# Altium footprint library Connectors.PcbLib: 67 footprints (part 2 of 5)
Each footprint in its own frame and in the unit in brackets; x right, y up, seen from the top. Pads: shape width x height; smd on the part's side, far side on the other; paste and mask are expansions set on the pad; w line width, h text height; cw(c..) or ccw(c..) is an arc to the next point about the centre after c.
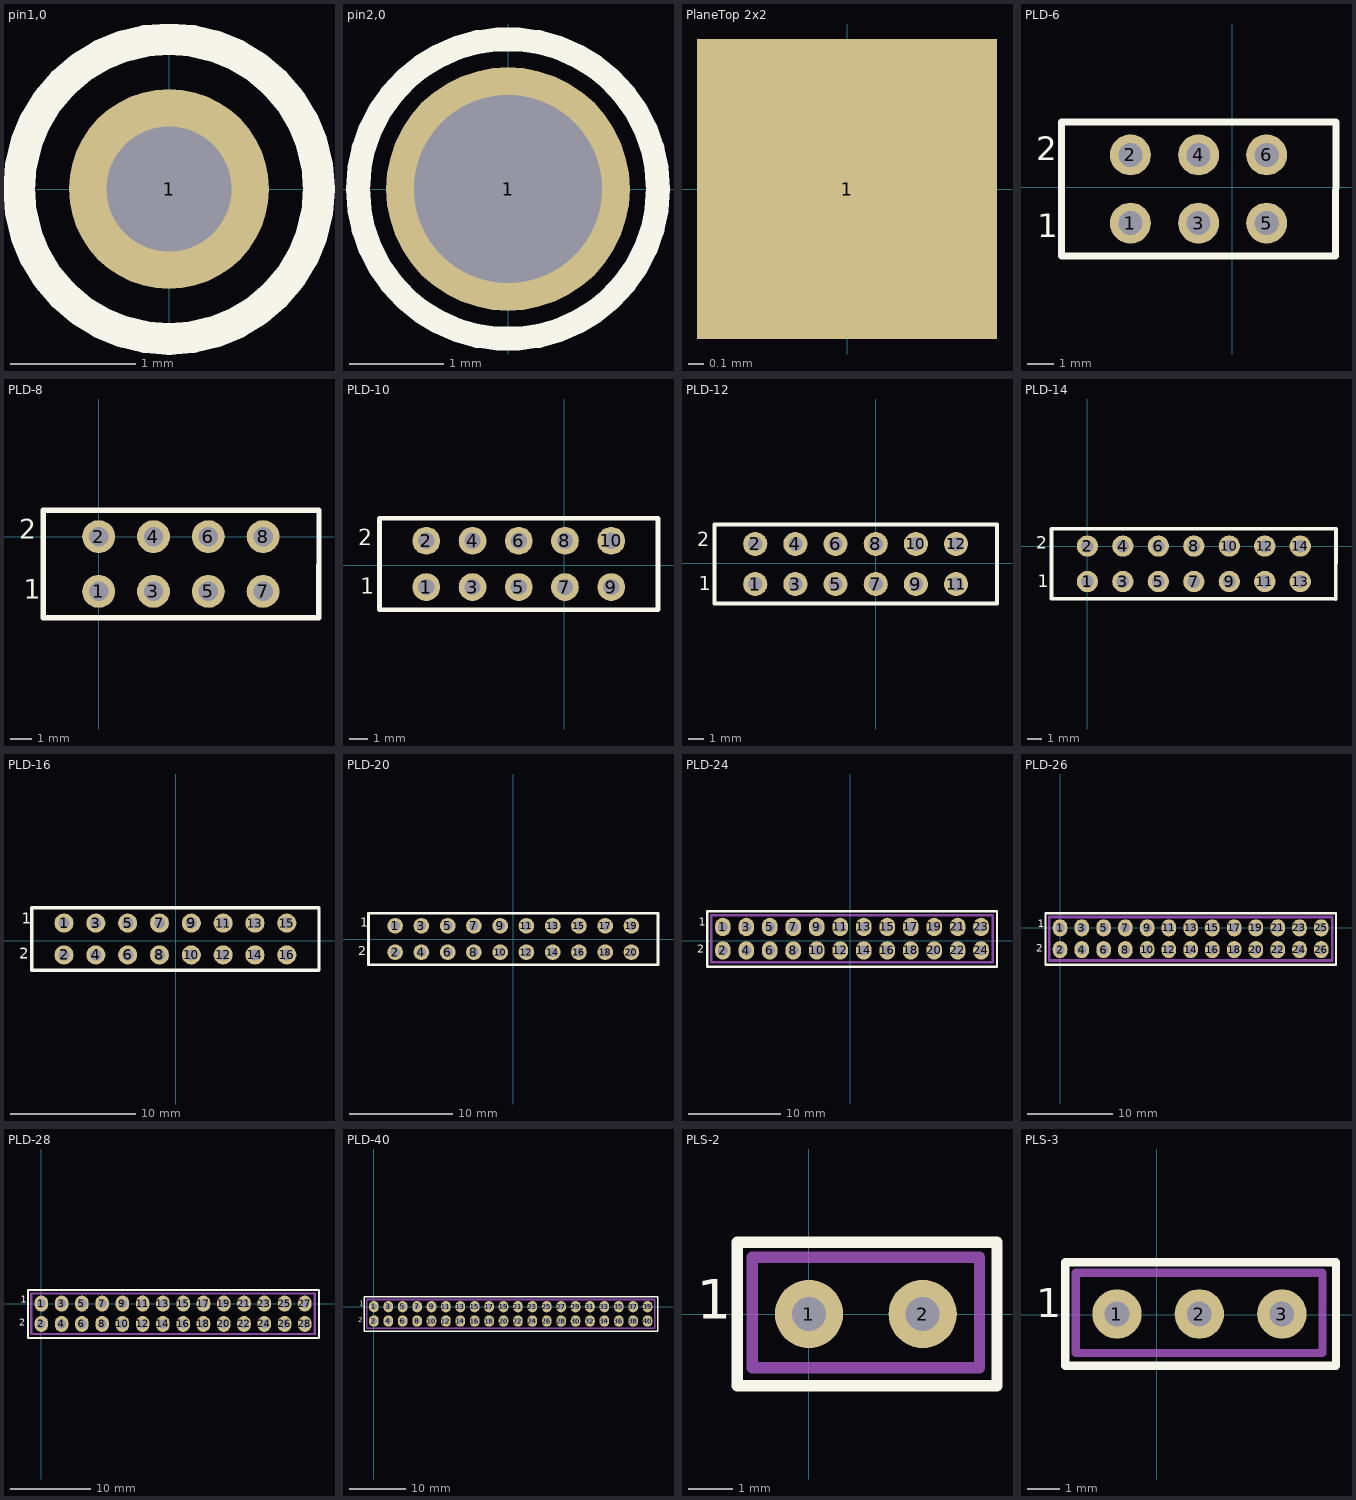
[diagram p1: the footprints below, top view; thin cyan lines are the x and y axes]

## pin1,0 [mm]
pads (1):
  round 1.6 hole 1: 1(0,0)
Top Overlay:
  circle w0.254: c0,0 r1.2

## pin2,0 [mm]
pads (1):
  round 2.6 hole 2: 1(0,0)
Top Overlay:
  circle w0.254: c0,0 r1.6

## PlaneTop 2x2 [mm]
pads (1):
  rect 2x2 smd: 1(0,0)

## PLD-6 [mm]
pads (6):
  round 1.524 hole 0.9: 1(-3.8,-1.34) 2(-3.8,1.2) 3(-1.26,-1.34) 4(-1.26,1.2) 5(1.28,-1.34) 6(1.28,1.2)
Top Overlay:
  lines w0.254: -6.37,-2.57 -6.37,2.43 3.865,2.43 3.85,-2.57 -6.37,-2.57
  text "2" at -7.321,0.7 h1.52
  text "1" at -7.27,-2.16 h1.52
3D body: height 10.5, standoff 0, extent -6.37,-2.57 3.74,2.43

## PLD-8 [mil]
pads (8):
  round 60 hole 35.43: 1(0,-100) 2(0,0) 3(100,-100) 4(100,0) 5(200,-100) 6(200,0) 7(300,-100) 8(300,0)
Top Overlay:
  lines w10: -101.18,-148.43 -101.18,48.43 401.9,48.43 401.31,-148.43 -101.18,-148.43
  text "2" at -145.33,-15.35 h60
  text "1" at -136.61,-125.2 h60
3D body: height 413.39, standoff 0, extent -101.18,-148.43 401.57,48.43

## PLD-10 [mm]
pads (10):
  round 1.524 hole 0.9: 1(-7.58,-1.21) 2(-7.58,1.33) 3(-5.04,-1.21) 4(-5.04,1.33) 5(-2.5,-1.21) 6(-2.5,1.33) 7(0.04,-1.21) 8(0.04,1.33) 9(2.58,-1.21) 10(2.58,1.33)
Top Overlay:
  lines w0.254: -10.15,-2.45 5.15,-2.45 5.15,2.56 -10.15,2.56 -10.15,-2.45
  text "1" at -11.22,-1.88 h1.5
  text "2" at -11.331,0.79 h1.5
3D body: height 10.5, standoff 0, extent -10.15,-2.44 5.15,2.56

## PLD-12 [mm]
pads (12):
  round 1.524 hole 0.9: 1(-7.62,-1.33) 2(-7.62,1.21) 3(-5.08,-1.33) 4(-5.08,1.21) 5(-2.54,-1.33) 6(-2.54,1.21) 7(0,-1.33) 8(0,1.21) 9(2.54,-1.33) 10(2.54,1.21) 11(5.08,-1.33) 12(5.08,1.21)
Top Overlay:
  lines w0.254: -10.19,-2.56 7.655,-2.56 7.671,2.44 -10.19,2.44 -10.19,-2.56
  text "1" at -11.19,-2.04 h1.5
  text "2" at -11.301,0.74 h1.5
3D body: height 10.5, standoff 0, extent -10.19,-2.56 7.66,2.44

## PLD-14 [mil]
pads (14):
  round 60 hole 35.43: 1(0,-100) 2(0,0) 3(100,-100) 4(100,0) 5(200,-100) 6(200,0) 7(300,-100) 8(300,0) 9(400,-100) 10(400,0) 11(500,-100) 12(500,0) 13(600,-100) 14(600,0)
Top Overlay:
  lines w10: 700.19,-149.61 700.79,47.24 ; 700.19,-148.43 -101.18,-148.43 -101.18,48.43 700.79,48.43
  text "2" at -144.94,-18.5 h59.06
  text "1" at -140.55,-127.95 h59.06
3D body: height 413.39, standoff 0, extent -101.18,-148.43 700,48.43

## PLD-16 [mm]
pads (16):
  round 1.524 hole 0.9: 1(-8.9,1.39) 2(-8.9,-1.15) 3(-6.36,1.39) 4(-6.36,-1.15) 5(-3.82,1.39) 6(-3.82,-1.15) 7(-1.28,1.39) 8(-1.28,-1.15) 9(1.26,1.39) 10(1.26,-1.15) 11(3.8,1.39) 12(3.8,-1.15) 13(6.34,1.39) 14(6.34,-1.15) 15(8.88,1.39) 16(8.88,-1.15)
Top Overlay:
  lines w0.254: -11.47,-2.38 -11.47,2.62 11.45,2.62 11.45,-2.38 -11.47,-2.38
  text "2" at -12.491,-1.76 h1.5
  text "1" at -12.28,1 h1.5
3D body: height 10.5, standoff 0, extent -11.47,-2.38 11.46,2.62

## PLD-20 [mil]
pads (20):
  round 60 hole 35.43: 1(-450,50) 2(-450,-50) 3(-350,50) 4(-350,-50) 5(-250,50) 6(-250,-50) 7(-150,50) 8(-150,-50) 9(-50,50) 10(-50,-50) 11(50,50) 12(50,-50) 13(150,50) 14(150,-50) 15(250,50) 16(250,-50) 17(350,50) 18(350,-50) 19(450,50) 20(450,-50)
Top Overlay:
  lines w10: -551.18,-98.43 -551.18,98.43 551.18,98.43 551.18,-98.43 -551.18,-98.43
  text "2" at -591.39,-74.02 h59.06
  text "1" at -583.07,34.65 h59.06
3D body: height 413.39, standoff 0, extent -551.18,-98.43 551.18,98.43

## PLD-24 [mm]
pads (24):
  oval 1.7x2 hole 1.1: 1(-13.8,1.47) 2(-13.8,-1.07) 3(-11.26,1.47) 4(-11.26,-1.07) 5(-8.72,1.47) 6(-8.72,-1.07) 7(-6.18,1.47) 8(-6.18,-1.07) 9(-3.64,1.47) 10(-3.64,-1.07) 11(-1.1,1.47) 12(-1.1,-1.07) 13(1.44,1.47) 14(1.44,-1.07) 15(3.98,1.47) 16(3.98,-1.07) 17(6.52,1.47) 18(6.52,-1.07) 19(9.06,1.47) 20(9.06,-1.07) 21(11.6,1.47) 22(11.6,-1.07) 23(14.14,1.47) 24(14.14,-1.07)
Top Overlay:
  lines w0.254: -15.5,-2.83 15.86,-2.83 15.86,3.17 -15.5,3.17 -15.5,-2.83
  text "1" at -16.4,1.27 h1.5
  text "2" at -16.601,-1.63 h1.5
Mechanical 15:
  lines w0.3: -15.07,-2.34 15.41,-2.34 15.41,2.74 -15.07,2.74 -15.07,-2.34
3D body: height 7.5, standoff -3, extent -14.1,1.17 -13.5,1.77
3D body: height 7.5, standoff -3, extent -14.099,-1.344 -13.499,-0.744
3D body: height 7.5, standoff -3, extent -11.559,1.196 -10.959,1.796
3D body: height 7.5, standoff -3, extent -11.559,-1.344 -10.959,-0.744
3D body: height 7.5, standoff -3, extent -9.019,1.196 -8.419,1.796
3D body: height 7.5, standoff -3, extent -9.019,-1.344 -8.419,-0.744
3D body: height 7.5, standoff -3, extent -6.479,1.196 -5.879,1.796
3D body: height 7.5, standoff -3, extent -6.479,-1.344 -5.879,-0.744
3D body: height 7.5, standoff -3, extent -6.479,1.196 -5.879,1.796
3D body: height 7.5, standoff -3, extent -6.479,-1.344 -5.879,-0.744
3D body: height 7.5, standoff -3, extent -3.939,1.196 -3.339,1.796
3D body: height 7.5, standoff -3, extent -3.939,-1.344 -3.339,-0.744
3D body: height 7.5, standoff -3, extent -1.399,-1.344 -0.799,-0.744
3D body: height 7.5, standoff -3, extent -1.399,1.196 -0.799,1.796
3D body: height 7.5, standoff -3, extent 1.141,-1.344 1.741,-0.744
3D body: height 7.5, standoff -3, extent 1.141,1.196 1.741,1.796
3D body: height 7.5, standoff -3, extent 3.681,1.196 4.281,1.796
3D body: height 7.5, standoff -3, extent 3.681,-1.344 4.281,-0.744
3D body: height 7.5, standoff -3, extent 6.221,1.196 6.821,1.796
3D body: height 7.5, standoff -3, extent 6.221,-1.344 6.821,-0.744
3D body: height 7.5, standoff -3, extent 8.761,1.196 9.361,1.796
3D body: height 7.5, standoff -3, extent 8.761,-1.344 9.361,-0.744
3D body: height 7.5, standoff -3, extent 11.301,1.196 11.901,1.796
3D body: height 7.5, standoff -3, extent 11.301,-1.344 11.901,-0.744
3D body: height 7.5, standoff -3, extent 13.841,1.196 14.441,1.796
3D body: height 7.5, standoff -3, extent 13.841,-1.344 14.441,-0.744
3D body: height 2.5, standoff 0, extent -15.07,-2.34 15.41,2.74

## PLD-26 [mm]
pads (26):
  oval 1.7x2 hole 1.1: 1(0,0) 2(0,-2.54) 3(2.54,0) 4(2.54,-2.54) 5(5.08,0) 6(5.08,-2.54) 7(7.62,0) 8(7.62,-2.54) 9(10.16,0) 10(10.16,-2.54) 11(12.7,0) 12(12.7,-2.54) 13(15.24,0) 14(15.24,-2.54) 15(17.78,0) 16(17.78,-2.54) 17(20.32,0) 18(20.32,-2.54) 19(22.86,0) 20(22.86,-2.54) 21(25.4,0) 22(25.4,-2.54) 23(27.94,0) 24(27.94,-2.54) 25(30.48,0) 26(30.48,-2.54)
Top Overlay:
  lines w0.254: -1.7,-4.3 -1.7,1.7 32.2,1.7 32.2,-4.3 -1.7,-4.3
  text "2" at -2.801,-3.1 h1.52
  text "1" at -2.6,-0.2 h1.52
Mechanical 15:
  lines w0.3: -1.27,-3.81 -1.27,1.27 31.75,1.27 31.75,-3.81 -1.27,-3.81
3D body: height 2.5, standoff 0, extent -1.27,-3.81 31.75,1.27
3D body: height 7.5, standoff -3, extent 30.181,-2.814 30.781,-2.214
3D body: height 7.5, standoff -3, extent 30.181,-0.274 30.781,0.326
3D body: height 7.5, standoff -3, extent 27.641,-2.814 28.241,-2.214
3D body: height 7.5, standoff -3, extent 27.641,-0.274 28.241,0.326
3D body: height 7.5, standoff -3, extent 25.101,-2.814 25.701,-2.214
3D body: height 7.5, standoff -3, extent 25.101,-0.274 25.701,0.326
3D body: height 7.5, standoff -3, extent 22.561,-2.814 23.161,-2.214
3D body: height 7.5, standoff -3, extent 22.561,-0.274 23.161,0.326
3D body: height 7.5, standoff -3, extent 20.021,-2.814 20.621,-2.214
3D body: height 7.5, standoff -3, extent 20.021,-0.274 20.621,0.326
3D body: height 7.5, standoff -3, extent 17.481,-2.814 18.081,-2.214
3D body: height 7.5, standoff -3, extent 17.481,-0.274 18.081,0.326
3D body: height 7.5, standoff -3, extent 14.941,-0.274 15.541,0.326
3D body: height 7.5, standoff -3, extent 14.941,-2.814 15.541,-2.214
3D body: height 7.5, standoff -3, extent 12.401,-0.274 13.001,0.326
3D body: height 7.5, standoff -3, extent 12.401,-2.814 13.001,-2.214
3D body: height 7.5, standoff -3, extent 9.861,-2.814 10.461,-2.214
3D body: height 7.5, standoff -3, extent 9.861,-0.274 10.461,0.326
3D body: height 7.5, standoff -3, extent 7.321,-2.814 7.921,-2.214
3D body: height 7.5, standoff -3, extent 7.321,-0.274 7.921,0.326
3D body: height 7.5, standoff -3, extent 7.321,-2.814 7.921,-2.214
3D body: height 7.5, standoff -3, extent 7.321,-0.274 7.921,0.326
3D body: height 7.5, standoff -3, extent 4.781,-2.814 5.381,-2.214
3D body: height 7.5, standoff -3, extent 4.781,-0.274 5.381,0.326
3D body: height 7.5, standoff -3, extent 2.241,-2.814 2.841,-2.214
3D body: height 7.5, standoff -3, extent 2.241,-0.274 2.841,0.326
3D body: height 7.5, standoff -3, extent -0.299,-2.814 0.301,-2.214
3D body: height 7.5, standoff -3, extent -0.3,-0.3 0.3,0.3

## PLD-28 [mm]
pads (28):
  oval 1.7x2 hole 1.1: 1(0,0) 2(0,-2.54) 3(2.54,0) 4(2.54,-2.54) 5(5.08,0) 6(5.08,-2.54) 7(7.62,0) 8(7.62,-2.54) 9(10.16,0) 10(10.16,-2.54) 11(12.7,0) 12(12.7,-2.54) 13(15.24,0) 14(15.24,-2.54) 15(17.78,0) 16(17.78,-2.54) 17(20.32,0) 18(20.32,-2.54) 19(22.86,0) 20(22.86,-2.54) 21(25.4,0) 22(25.4,-2.54) 23(27.94,0) 24(27.94,-2.54) 25(30.48,0) 26(30.48,-2.54) 27(33.02,0) 28(33.02,-2.54)
Top Overlay:
  lines w0.254: -1.7,-4.3 -1.7,1.7 34.8,1.7 34.8,-4.3 -1.7,-4.3
  text "2" at -2.801,-3.1 h1.52
  text "1" at -2.6,-0.2 h1.52
Mechanical 15:
  lines w0.3: -1.27,-3.81 -1.27,1.27 34.29,1.27 34.29,-3.81 -1.27,-3.81
3D body: height 2.5, standoff 0, extent -1.27,-3.81 34.29,1.27
3D body: height 7.5, standoff -3, extent 30.181,-2.814 30.781,-2.214
3D body: height 7.5, standoff -3, extent 30.181,-0.274 30.781,0.326
3D body: height 7.5, standoff -3, extent 27.641,-2.814 28.241,-2.214
3D body: height 7.5, standoff -3, extent 27.641,-0.274 28.241,0.326
3D body: height 7.5, standoff -3, extent 25.101,-2.814 25.701,-2.214
3D body: height 7.5, standoff -3, extent 25.101,-0.274 25.701,0.326
3D body: height 7.5, standoff -3, extent 22.561,-2.814 23.161,-2.214
3D body: height 7.5, standoff -3, extent 22.561,-0.274 23.161,0.326
3D body: height 7.5, standoff -3, extent 20.021,-2.814 20.621,-2.214
3D body: height 7.5, standoff -3, extent 20.021,-0.274 20.621,0.326
3D body: height 7.5, standoff -3, extent 17.481,-2.814 18.081,-2.214
3D body: height 7.5, standoff -3, extent 17.481,-0.274 18.081,0.326
3D body: height 7.5, standoff -3, extent 14.941,-0.274 15.541,0.326
3D body: height 7.5, standoff -3, extent 14.941,-2.814 15.541,-2.214
3D body: height 7.5, standoff -3, extent 12.401,-0.274 13.001,0.326
3D body: height 7.5, standoff -3, extent 12.401,-2.814 13.001,-2.214
3D body: height 7.5, standoff -3, extent 9.861,-2.814 10.461,-2.214
3D body: height 7.5, standoff -3, extent 9.861,-0.274 10.461,0.326
3D body: height 7.5, standoff -3, extent 7.321,-2.814 7.921,-2.214
3D body: height 7.5, standoff -3, extent 7.321,-0.274 7.921,0.326
3D body: height 7.5, standoff -3, extent 7.321,-2.814 7.921,-2.214
3D body: height 7.5, standoff -3, extent 7.321,-0.274 7.921,0.326
3D body: height 7.5, standoff -3, extent 4.781,-2.814 5.381,-2.214
3D body: height 7.5, standoff -3, extent 4.781,-0.274 5.381,0.326
3D body: height 7.5, standoff -3, extent 2.241,-2.814 2.841,-2.214
3D body: height 7.5, standoff -3, extent 2.241,-0.274 2.841,0.326
3D body: height 7.5, standoff -3, extent -0.299,-2.814 0.301,-2.214
3D body: height 7.5, standoff -3, extent -0.3,-0.3 0.3,0.3
3D body: height 7.5, standoff -3, extent 32.7,-0.3 33.3,0.3
3D body: height 7.5, standoff -3, extent 32.7,-2.8 33.3,-2.2

## PLD-40 [mm]
pads (40):
  oval 1.7x2 hole 1.1: 1(0,0) 2(0,-2.54) 3(2.54,0) 4(2.54,-2.54) 5(5.08,0) 6(5.08,-2.54) 7(7.62,0) 8(7.62,-2.54) 9(10.16,0) 10(10.16,-2.54) 11(12.7,0) 12(12.7,-2.54) 13(15.24,0) 14(15.24,-2.54) 15(17.78,0) 16(17.78,-2.54) 17(20.32,0) 18(20.32,-2.54) 19(22.86,0) 20(22.86,-2.54) 21(25.4,0) 22(25.4,-2.54) 23(27.94,0) 24(27.94,-2.54) 25(30.48,0) 26(30.48,-2.54) 27(33.02,0) 28(33.02,-2.54) 29(35.56,0) 30(35.56,-2.54) 31(38.1,0) 32(38.1,-2.54) 33(40.64,0) 34(40.64,-2.54) 35(43.18,0) 36(43.18,-2.54) 37(45.72,0) 38(45.72,-2.54) 39(48.26,0) 40(48.26,-2.54)
Top Overlay:
  lines w0.254: -1.7,-4.3 50.1,-4.3 50.1,1.7 -1.7,1.7 -1.7,-4.3
  text "1" at -2.6,-0.2 h1.52
  text "2" at -2.801,-3.1 h1.52
Mechanical 15:
  lines w0.3: -1.27,-3.81 49.53,-3.81 49.53,1.27 -1.27,1.27 -1.27,-3.81
3D body: height 2.5, standoff 0, extent -1.27,-3.81 49.5,1.27
3D body: height 7.5, standoff -3, extent 32.7,-2.8 33.3,-2.2
3D body: height 7.5, standoff -3, extent 32.7,-0.3 33.3,0.3
3D body: height 7.5, standoff -3, extent -0.3,-0.3 0.3,0.3
3D body: height 7.5, standoff -3, extent -0.299,-2.814 0.301,-2.214
3D body: height 7.5, standoff -3, extent 2.241,-0.274 2.841,0.326
3D body: height 7.5, standoff -3, extent 2.241,-2.814 2.841,-2.214
3D body: height 7.5, standoff -3, extent 4.781,-0.274 5.381,0.326
3D body: height 7.5, standoff -3, extent 4.781,-2.814 5.381,-2.214
3D body: height 7.5, standoff -3, extent 7.321,-0.274 7.921,0.326
3D body: height 7.5, standoff -3, extent 7.321,-2.814 7.921,-2.214
3D body: height 7.5, standoff -3, extent 7.321,-0.274 7.921,0.326
3D body: height 7.5, standoff -3, extent 7.321,-2.814 7.921,-2.214
3D body: height 7.5, standoff -3, extent 9.861,-0.274 10.461,0.326
3D body: height 7.5, standoff -3, extent 9.861,-2.814 10.461,-2.214
3D body: height 7.5, standoff -3, extent 12.401,-2.814 13.001,-2.214
3D body: height 7.5, standoff -3, extent 12.401,-0.274 13.001,0.326
3D body: height 7.5, standoff -3, extent 14.941,-2.814 15.541,-2.214
3D body: height 7.5, standoff -3, extent 14.941,-0.274 15.541,0.326
3D body: height 7.5, standoff -3, extent 17.481,-0.274 18.081,0.326
3D body: height 7.5, standoff -3, extent 17.481,-2.814 18.081,-2.214
3D body: height 7.5, standoff -3, extent 20.021,-0.274 20.621,0.326
3D body: height 7.5, standoff -3, extent 20.021,-2.814 20.621,-2.214
3D body: height 7.5, standoff -3, extent 22.561,-0.274 23.161,0.326
3D body: height 7.5, standoff -3, extent 22.561,-2.814 23.161,-2.214
3D body: height 7.5, standoff -3, extent 25.101,-0.274 25.701,0.326
3D body: height 7.5, standoff -3, extent 25.101,-2.814 25.701,-2.214
3D body: height 7.5, standoff -3, extent 27.641,-0.274 28.241,0.326
3D body: height 7.5, standoff -3, extent 27.641,-2.814 28.241,-2.214
3D body: height 7.5, standoff -3, extent 30.181,-0.274 30.781,0.326
3D body: height 7.5, standoff -3, extent 30.181,-2.814 30.781,-2.214
3D body: height 7.5, standoff -3, extent 35,-0.4 35.6,0.2
3D body: height 7.5, standoff -3, extent 35.1,-3 35.7,-2.4
3D body: height 7.5, standoff -3, extent 37.6,-2.9 38.2,-2.3
3D body: height 7.5, standoff -3, extent 40.2,-2.8 40.8,-2.2
3D body: height 7.5, standoff -3, extent 42.7,-2.9 43.3,-2.3
3D body: height 7.5, standoff -3, extent 45.2,-2.9 45.8,-2.3
3D body: height 7.5, standoff -3, extent 40.1,-0.4 40.7,0.2
3D body: height 7.5, standoff -3, extent 42.7,-0.3 43.3,0.3
3D body: height 7.5, standoff -3, extent 45.3,-0.3 45.9,0.3
3D body: height 7.5, standoff -3, extent 47.9,-0.3 48.5,0.3
3D body: height 7.5, standoff -3, extent 37.6,-0.4 38.2,0.2
3D body: height 7.5, standoff -3, extent 47.8,-2.9 48.4,-2.3

## PLS-2 [mil]
pads (2):
  round 60 hole 30: 1(0,0) 2(100,0)
Top Overlay:
  lines w10: -62.99,-62.99 165.35,-62.99 165.35,62.99 -62.99,62.99 -62.99,-62.99
  text "1" at -98.43,-15.75 h60
Mechanical 15:
  lines w10: -50,-47.24 150,-47.24 150,50 -50,50 -50,-47.24
3D body: height 413.39, standoff 0, extent -50,-48.43 150,50

## PLS-3 [mil]
pads (3):
  round 60 hole 30: 1(-48.03,0.79) 2(51.97,0.79) 3(152.36,0.79)
Top Overlay:
  lines w10: -111.02,-62.2 218.11,-62.2 218.11,63.78 -111.02,63.78 -111.02,-62.2
  text "1" at -146.46,-14.96 h60
Mechanical 15:
  lines w10: -98.03,-46.46 -98.03,50.79 201.57,50.79 201.57,-46.46 -98.03,-46.46
3D body: height 413.39, standoff 0, extent -98.03,-47.64 201.97,50.79